# Altium schematic symbol library 0533981271.SchLib: 1 symbol
Pins are listed as number, name and electrical type; pins without a type are passive.

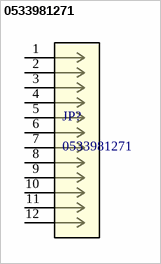
[diagram p0: symbol 0533981271]

## 0533981271
designator JP?
Manufacturer: Molex; PartDescription: CONN HEADER SMD 12POS 1.25MM; Supplier 1: Digi-Key; Supplier Part Number 1: WM7616CT-ND; PartNumber: 0533981271; Package Type: 12 SMD
footprint MOLEX_0533981271
pins: 1, 2, 3, 4, 5, 6, 7, 8, 9, 10, 11, 12